# Altium footprint library WIRE_WOUND_Test.PcbLib: 22 footprints (part 1 of 2)
Each footprint in its own frame and in the unit in brackets; x right, y up, seen from the top. Pads: shape width x height; smd on the part's side, far side on the other; paste and mask are expansions set on the pad; w line width, h text height; cw(c..) or ccw(c..) is an arc to the next point about the centre after c.
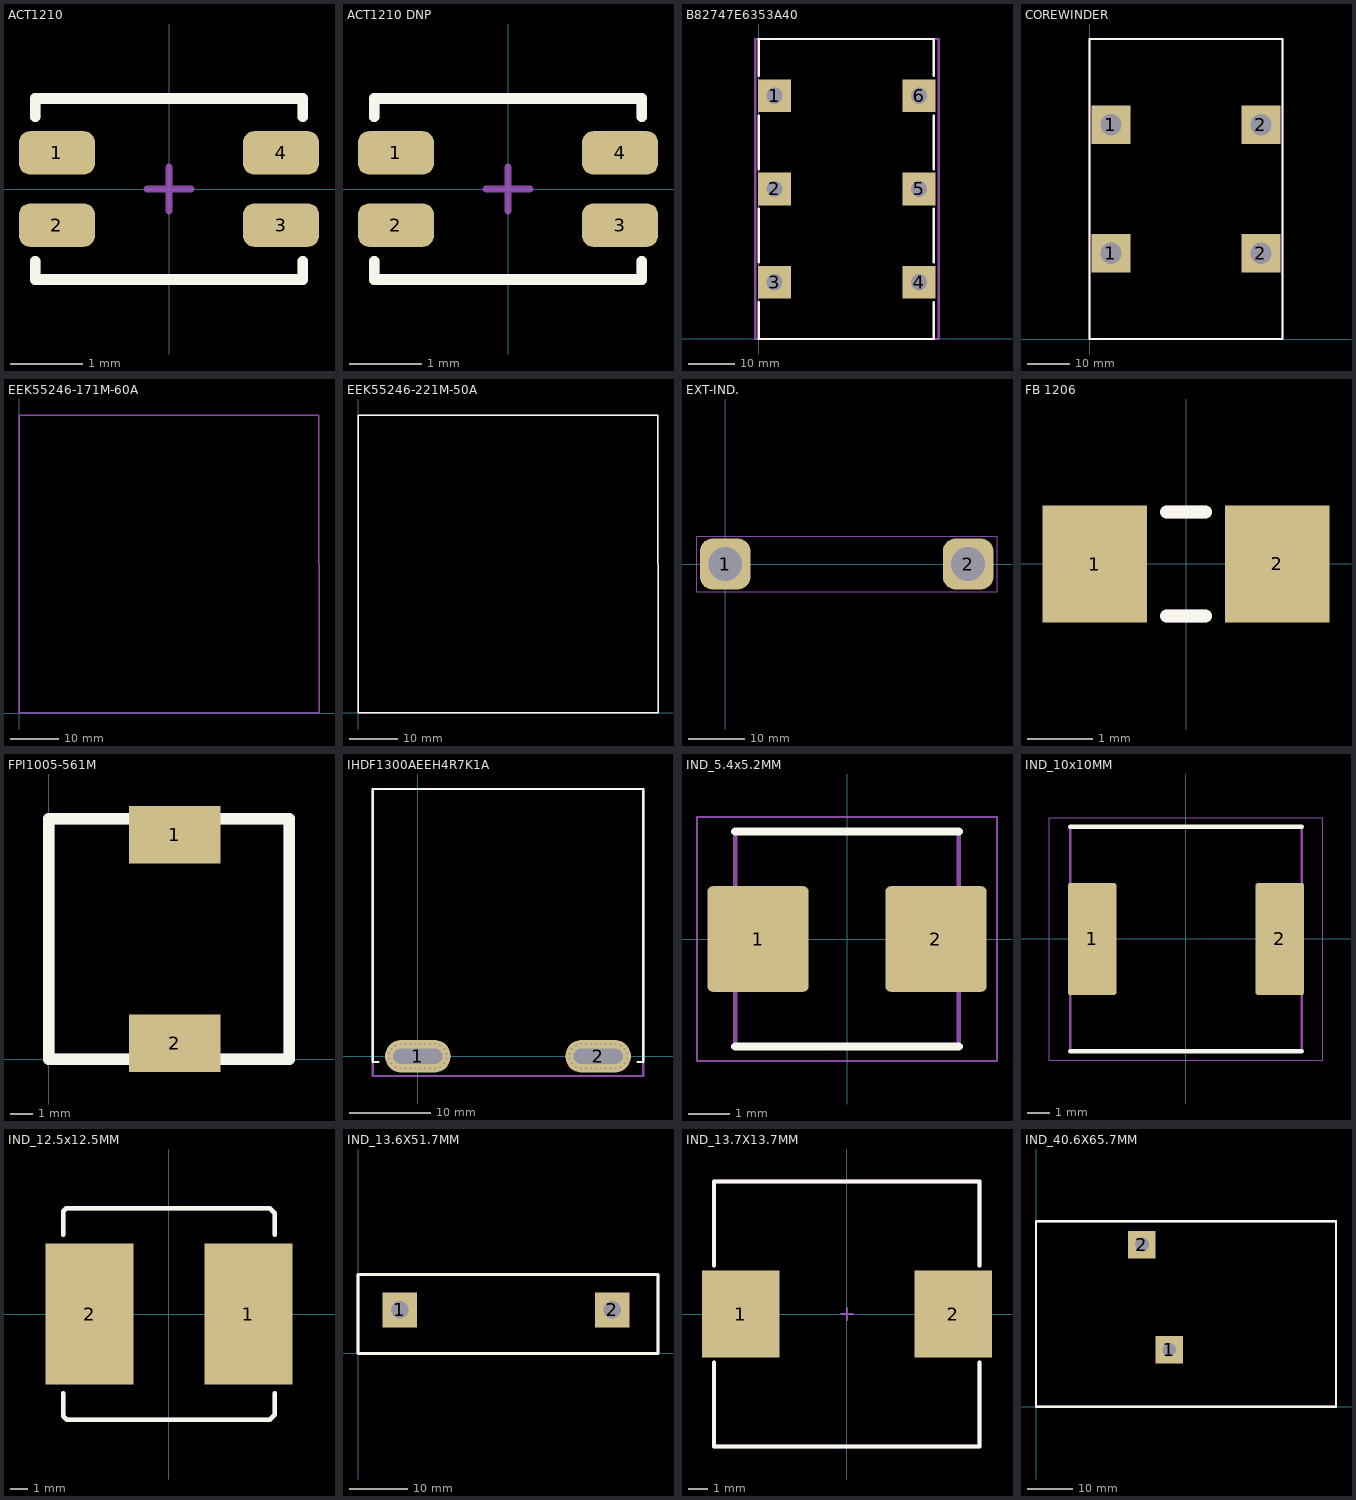
[diagram p0: the footprints below, top view; thin cyan lines are the x and y axes]

## ACT1210 [mm] "ACT1210-510-2P-TL00"
height 2.5
pads (4):
  rrect50% 1.05x0.6 smd mask+0.05: 1(-1.55,0.5) 2(-1.55,-0.5) 3(1.55,-0.5) 4(1.55,0.5)
Top Overlay:
  lines w0.15: -1.85,-1 -1.85,-1.25 1.85,-1.25 1.85,-1 ; -1.85,1 -1.85,1.25 1.85,1.25 1.85,1
Mechanical 15:
  lines w0.1: -0.3,0 0.3,0 ; 0,-0.3 0,0.3
Mechanical 29:
  lines w0.15: -1.85,-1 -1.85,-1.25 1.85,-1.25 1.85,-1 ; -1.85,1 -1.85,1.25 1.85,1.25 1.85,1
  text "'.Designator'" at -1.534,-0.143 h0.64
3D body "act1210.step": height 2.36, standoff 0.01, extent -1.85,-1.25 1.85,1.25

## ACT1210 DNP [mm] "DNP"
height 2.5
pads (4):
  rrect50% 1.05x0.6 smd mask+0.05: 1(-1.55,0.5) 2(-1.55,-0.5) 3(1.55,-0.5) 4(1.55,0.5)
Top Overlay:
  lines w0.15: -1.85,-1 -1.85,-1.25 1.85,-1.25 1.85,-1 ; -1.85,1 -1.85,1.25 1.85,1.25 1.85,1
Mechanical 15:
  lines w0.1: -0.3,0 0.3,0 ; 0,-0.3 0,0.3
Mechanical 29:
  lines w0.15: -1.85,-1 -1.85,-1.25 1.85,-1.25 1.85,-1 ; -1.85,1 -1.85,1.25 1.85,1.25 1.85,1

## B82747E6353A40 [mm]
pads (6):
  rect 7x7 hole 3.5: 1(3.35,52.175) 2(3.35,32.175) 3(3.35,12.175) 4(34.35,12.175) 5(34.35,32.175) 6(34.35,52.175)
Top Overlay:
  lines w0.5: 0,7.925 0,0 37.5,0 37.5,7.925 ; 0,16.425 0,27.925 ; 0,36.425 0,47.925 ; 0,56.425 0,64.35 37.5,64.35 37.5,56.425 ; 37.5,16.425 37.5,27.925 ; 37.5,36.425 37.5,47.925
Mechanical 29:
  lines w0.5: -0.75,0 -0.75,64.35 38.55,64.35 38.55,0 -0.75,0
  text "'.Designator'" at 20.411,21.075 h5
3D body "c62330-a115-a254-01_sw0001.stp": height 62, standoff -4.35, extent 0.25,0.175 37.25,64.175

## COREWINDER [mm]
pads (4):
  rect 9x9 hole 5: 1(5,20) 1(5,50) 2(40,20) 2(40,50)
Top Overlay:
  lines w0.5: 0,0 45,0 45,70 0,70 0,0
Mechanical 29:
  lines w0.5: 0,0 0,70 45,70 45,0 0,0
  text "'.Designator'" at 8,33.328 h6
3D body "MicroMetals_T250_52.STEP": height 84.48, standoff -11.85, extent 0.241,0.838 45.156,69.166

## EEK55246-171M-60A [mm]
Mechanical 29:
  lines w0.3: 0,0.1 62,0.1 62,61.6 0,61.6 0,0.1
  text "'.Designator'" at 11.7,30.504 h8
3D body "EEK55246-171M-60A.STEP": height 45.33, standoff -6, extent -11.725,0.325 73.725,61.275

## EEK55246-221M-50A [mm]
Top Overlay:
  lines w0.3: 0,0 62,0 62,61.5 0,61.5 0,0
Mechanical 29:
  lines w0.3: 0,0 62,0 62,61.5 0,61.5 0,0
  text "'.Designator'" at 11.7,30.404 h8
3D body "EEK55246-221M-50A.STEP": height 48.33, standoff -3, extent -11.725,0.25 73.725,61.2

## EXT-IND. [mm]
pads (2):
  rrect50% 9x9 hole 6: 1(0,0) 2(43,0)
Mechanical 29:
  lines w0.2: -5,-4.9 48.1,-4.9 48.1,4.9 -5,4.9 -5,-4.9
  text "'.Designator'" at 13,-1.6 h4

## FB 1206 [mm] "Ferrite Bead 1206"
height 2.54
pads (2):
  rect 1.6x1.8 smd: 1(-1.4,0) 2(1.4,0)
Top Overlay:
  lines w0.2: -0.3,-0.8 0.3,-0.8 ; -0.3,0.8 0.3,0.8
Mechanical 29:
  lines w0.2: -0.3,-0.8 0.3,-0.8 ; -0.3,0.8 0.3,0.8
  text "'.Designator'" at -1.321,-0.212 h0.51
3D body "LF1206C202R-10.stp": height 1.31, standoff 0.01, extent -1.6,-0.8 1.6,0.8

## FPI1005-561M [mm]
pads (2):
  rect 4x2.5 smd: 1(5.5,9.8) 2(5.5,0.7)
Top Overlay:
  lines w0.5: 0,0 0,10.5 10.5,10.5 10.5,0 0,0
Mechanical 29:
  lines w0.5: 0,0 0,10.5 10.5,10.5 10.5,0 0,0
  text "'.Designator'" at 0.4,5.026 h2
3D body: height 6, standoff 0.5, extent 0.5,0.5 10,10.05

## IHDF1300AEEH4R7K1A [mm]
pads (2):
  oval 8x4 hole 1.8 slot 6 at 0 deg: 1(0,0) 2(22,0)
via -0.3,1.5 diameter 0.5 hole 0.25
via -0.3,-1.5 diameter 0.5 hole 0.25
via 0.3,-1.5 diameter 0.5 hole 0.25
via 0.3,1.5 diameter 0.5 hole 0.25
via -0.9,-1.5 diameter 0.5 hole 0.25
via -0.9,1.5 diameter 0.5 hole 0.25
via -1.5,-1.5 diameter 0.5 hole 0.25
via -1.5,1.5 diameter 0.5 hole 0.25
via -2.1,-1.5 diameter 0.5 hole 0.25
via -2.1,1.5 diameter 0.5 hole 0.25
via -3.5,-0.3 diameter 0.5 hole 0.25
via -3.2,-0.9 diameter 0.5 hole 0.25
via -2.7,-1.3 diameter 0.5 hole 0.25
via -3.5,0.3 diameter 0.5 hole 0.25
via -3.2,0.9 diameter 0.5 hole 0.25
via -2.7,1.3 diameter 0.5 hole 0.25
via 3.5,0.3 diameter 0.5 hole 0.25
via 3.2,0.9 diameter 0.5 hole 0.25
via 2.7,1.3 diameter 0.5 hole 0.25
via 3.5,-0.3 diameter 0.5 hole 0.25
via 3.2,-0.9 diameter 0.5 hole 0.25
via 2.7,-1.3 diameter 0.5 hole 0.25
via 0.9,1.5 diameter 0.5 hole 0.25
via 1.5,1.5 diameter 0.5 hole 0.25
via 2.1,1.5 diameter 0.5 hole 0.25
via 0.9,-1.5 diameter 0.5 hole 0.25
via 1.5,-1.5 diameter 0.5 hole 0.25
via 2.1,-1.5 diameter 0.5 hole 0.25
via 21.7,1.5 diameter 0.5 hole 0.25
via 21.7,-1.5 diameter 0.5 hole 0.25
via 22.3,-1.5 diameter 0.5 hole 0.25
via 22.3,1.5 diameter 0.5 hole 0.25
via 21.1,-1.5 diameter 0.5 hole 0.25
via 21.1,1.5 diameter 0.5 hole 0.25
via 20.5,-1.5 diameter 0.5 hole 0.25
via 20.5,1.5 diameter 0.5 hole 0.25
via 19.9,-1.5 diameter 0.5 hole 0.25
via 19.9,1.5 diameter 0.5 hole 0.25
via 18.5,-0.3 diameter 0.5 hole 0.25
via 18.8,-0.9 diameter 0.5 hole 0.25
via 19.3,-1.3 diameter 0.5 hole 0.25
via 18.5,0.3 diameter 0.5 hole 0.25
via 18.8,0.9 diameter 0.5 hole 0.25
via 19.3,1.3 diameter 0.5 hole 0.25
via 25.5,0.3 diameter 0.5 hole 0.25
via 25.2,0.9 diameter 0.5 hole 0.25
via 24.7,1.3 diameter 0.5 hole 0.25
via 25.5,-0.3 diameter 0.5 hole 0.25
via 25.2,-0.9 diameter 0.5 hole 0.25
via 24.7,-1.3 diameter 0.5 hole 0.25
via 22.9,1.5 diameter 0.5 hole 0.25
via 23.5,1.5 diameter 0.5 hole 0.25
via 24.1,1.5 diameter 0.5 hole 0.25
via 22.9,-1.5 diameter 0.5 hole 0.25
via 23.5,-1.5 diameter 0.5 hole 0.25
via 24.1,-1.5 diameter 0.5 hole 0.25
Top Overlay:
  lines w0.25: -4.8,-0.7 -5.5,-0.7 -5.5,32.6 27.5,32.6 27.5,-0.7 26.8,-0.7
Mechanical 29:
  lines w0.25: -5.5,-2.4 -5.5,32.6 27.5,32.6 27.5,-2.4 25.7,-2.4 13.7,-2.4 -5.5,-2.4
  text "'.Designator'" at 3.7,16.164 h3
3D body "leakage-inductance.stp": height 14.89, standoff -4.11, extent -5.583,-0.5 27.417,32.512

## IND_5.4x5.2MM [mm]
pads (2):
  rrect10% 2.45x2.55 smd: 1(-2.15,0) 2(2.15,0)
Top Overlay:
  lines w0.2: -2.7,-2.6 2.7,-2.6 ; -2.7,2.6 2.7,2.6
Mechanical 15:
  lines w0.05: -3.625,-2.95 -3.625,2.95 3.625,2.95 3.625,-2.95 -3.625,-2.95
Mechanical 29:
  lines w0.1: -2.7,-2.6 -2.7,2.6 2.7,2.6 2.7,-2.6 -2.7,-2.6
  text "'.Designator'" at -1.84,-0.172 h0.76
3D body "0530CDMCCDS-3R3MC.stp": height 3, standoff 0, extent -2.7,-2.6 2.7,2.6

## IND_10x10MM [mm]
pads (2):
  rrect10% 2.15x5 smd: 1(-4.175,0) 2(4.175,0)
Top Overlay:
  lines w0.2: -5.15,-5 5.15,-5 ; -5.15,5 5.15,5
Mechanical 13:
  lines w0.1: -5.15,-5 -5.15,5 5.15,5 5.15,-5 -5.15,-5
Mechanical 15:
  lines w0.05: -6.075,-5.4 -6.075,5.4 6.075,5.4 6.075,-5.4 -6.075,-5.4
Mechanical 29:
  text "'.Designator'" at -2.457,-0.23 h1.02
3D body "1274AS-H-100M=P3.STEP": height 5.01, standoff 0.01, extent -5,-5 5,5

## IND_12.5x12.5MM [mm]
height 5
pads (2):
  rect 5x8 smd: 1(4.508,0) 2(-4.5,0)
Top Overlay:
  lines w0.254: -6,-4.48 -6,-5.792 -5.792,-6 5.712,-6 6,-5.712 6,-4.48 ; -6,4.48 -6,5.824 -5.824,6 5.712,6 6,5.712 6,4.48
Mechanical 29:
  lines w0.254: -6,-4.48 -6,-5.792 -5.792,-6 5.712,-6 6,-5.712 6,-4.48 ; -6,4.48 -6,5.824 -5.824,6 5.712,6 6,5.712 6,4.48
  text "'.Designator'" at -4.216,-0.22 h1.02
3D body "pm127sh-330m-rc.stp": height 7.51, standoff 0.01, extent -6.25,-6.25 6.25,6.25

## IND_13.6X51.7MM [mm]
pads (2):
  rect 6x6 hole 3 square: 1(7.2,7.5) 2(43.8,7.5)
Top Overlay:
  lines w0.5: 0,0 0,13.6 51.7,13.6 51.7,0 0,0
Mechanical 29:
  lines w0.5: 0,0 0,13.6 51.7,13.6 51.7,0 0,0
  text "'.Designator'" at 16,6.552 h4

## IND_13.7X13.7MM [mm]
pads (2):
  rect 4x4.5 smd mask+0.05: 1(-5.5,0) 2(5.5,0)
Top Overlay:
  lines w0.2: -6.875,-2.5 -6.875,-6.85 6.85,-6.85 6.85,-2.5 ; -6.875,2.5 -6.875,6.85 6.85,6.85 6.85,2.5
Mechanical 15:
  lines w0.1: -0.3,0 0.3,0 ; 0,-0.3 0,0.3
Mechanical 29:
  lines w0.2: -6.875,-2.5 -6.875,-6.85 6.85,-6.85 6.85,-2.5 ; -6.875,2.5 -6.875,6.85 6.85,6.85 6.85,2.5
  text "'.Designator'" at -3.068,-0.287 h1.27
3D body "srp1270.stp": height 7.01, standoff 0.01, extent -6.85,-6.85 6.85,6.85

## IND_40.6X65.7MM [mm]
pads (2):
  rect 6x6 hole 3 square: 1(29.2,12.5) 2(23.2,35.5)
Top Overlay:
  lines w0.5: 0,0 65.7,0 65.7,40.6 0,40.6 0,0
Mechanical 29:
  lines w0.5: 0,0 65.7,0 65.7,40.6 0,40.6 0,0
  text "'.Designator'" at 9,18.079 h10